# Altium integrated library SV601272A.IntLib: 191 symbols (part 4 of 4)
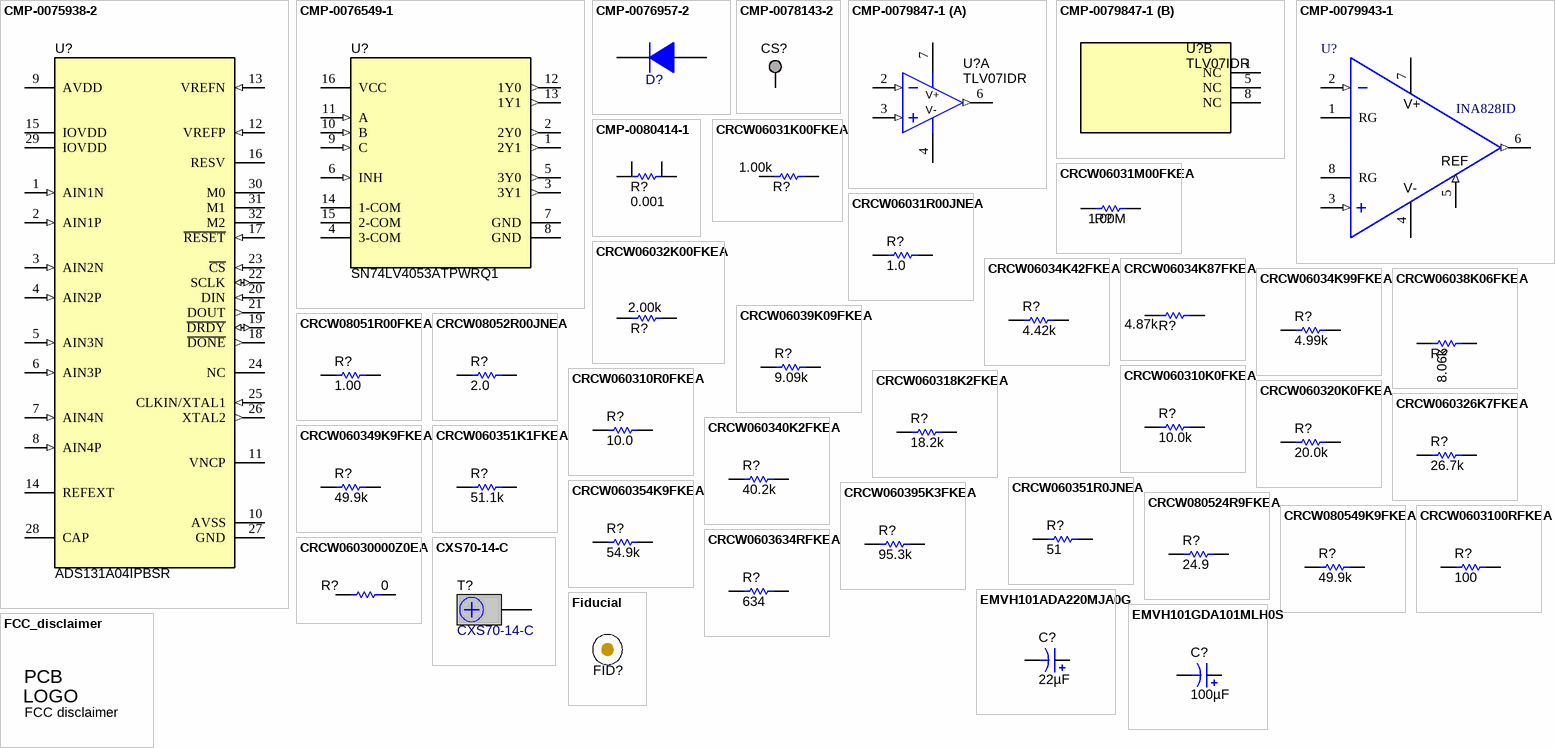
[diagram p8: symbols CMP-0075938-2 to Fiducial]

## EMVH101GDA101MLH0S
designator C?  ValueDisplayed: 100µF  (hidden comment: EMVH101GDA101MLH0S)
CAP, AL, 100 µF, 100 V, +/- 20%, 0.24 ohm, SMD; Manufacturer: Chemi-Con; Polarized: Y; CompType: Capacitor; Value: 100uF; U/M: EA; Cap_F: 0.0001; Tolerance_%: 20; VDC_V: 100; Value2: 100V; ESR_ohm: 0.24; IRMS_A: 0.65; TaMin_C: -40; TaMax_C: 125; Cap_Case: LH0; SymbolVersion: 2008-07-09; PartNumber: EMVH101GDA101MLH0S; PackageReference: LH0; RoHS: Y; Value1: 0.24 ohm; MountType: SMT; Technology: AL; Series: MVH; Publisher: Texas Instruments; LatestRevisionDate: 2014-11-20; ComponentLink1Description: Datasheet link; ComponentLink1URL: http://www.chemi-con.co.jp/e/catalog/pdf/al-e/al-sepa-e/003-chip/al-mvh-e-111201.pdf; Supplier 1: Digi-Key; Supplier Part Number 1: 565-2344-1-ND; Supplier 2: Mouser; Supplier Part Number 2: 661-MVH100V101M; Supplier 3: Farnell; Supplier Part Number 3: 1698522
signal-integrity model Cap
simulation model Cap
footprint CAPSMT_62_LH0
pins: 1 +, 2 -

## FCC_disclaimer
designator Logo?, comment FCC disclaimer  (no BOM)
FCC_disclaimer; SymbolCreator: codlsc; SymbolVersion: 2011-08-22; Published: 2009-03-03; Publisher: Texas Instruments; LatestRevisionDate: 2014-11-20
footprint FCC_disclaimer
footprint FCC_disclaimer_stacked
text: PCB; LOGO

## Fiducial
designator FID?  (value not drawn)
Fiducial mark.  There is nothing to buy or mount.; SymbolCreator: codlsc; SymbolVersion: 2009-11-4; CompType: Fiducial; Publisher: Texas Instruments; LatestRevisionDate: 2014-08-01; LatestRevisionNote: Added Alternate PartNumber and Alternate Manufacturer parameters to appropriate components.; Manufacturer: N/A; MountType: N/A; PackageReference: Fiducial; PartNumber: N/A; ClassName: FiducialMark
footprint Fiducial10-30
footprint Fiducial10-20
footprint Fiducial15-30
footprint Fiducial20-40
footprint Fiducial6.4-20

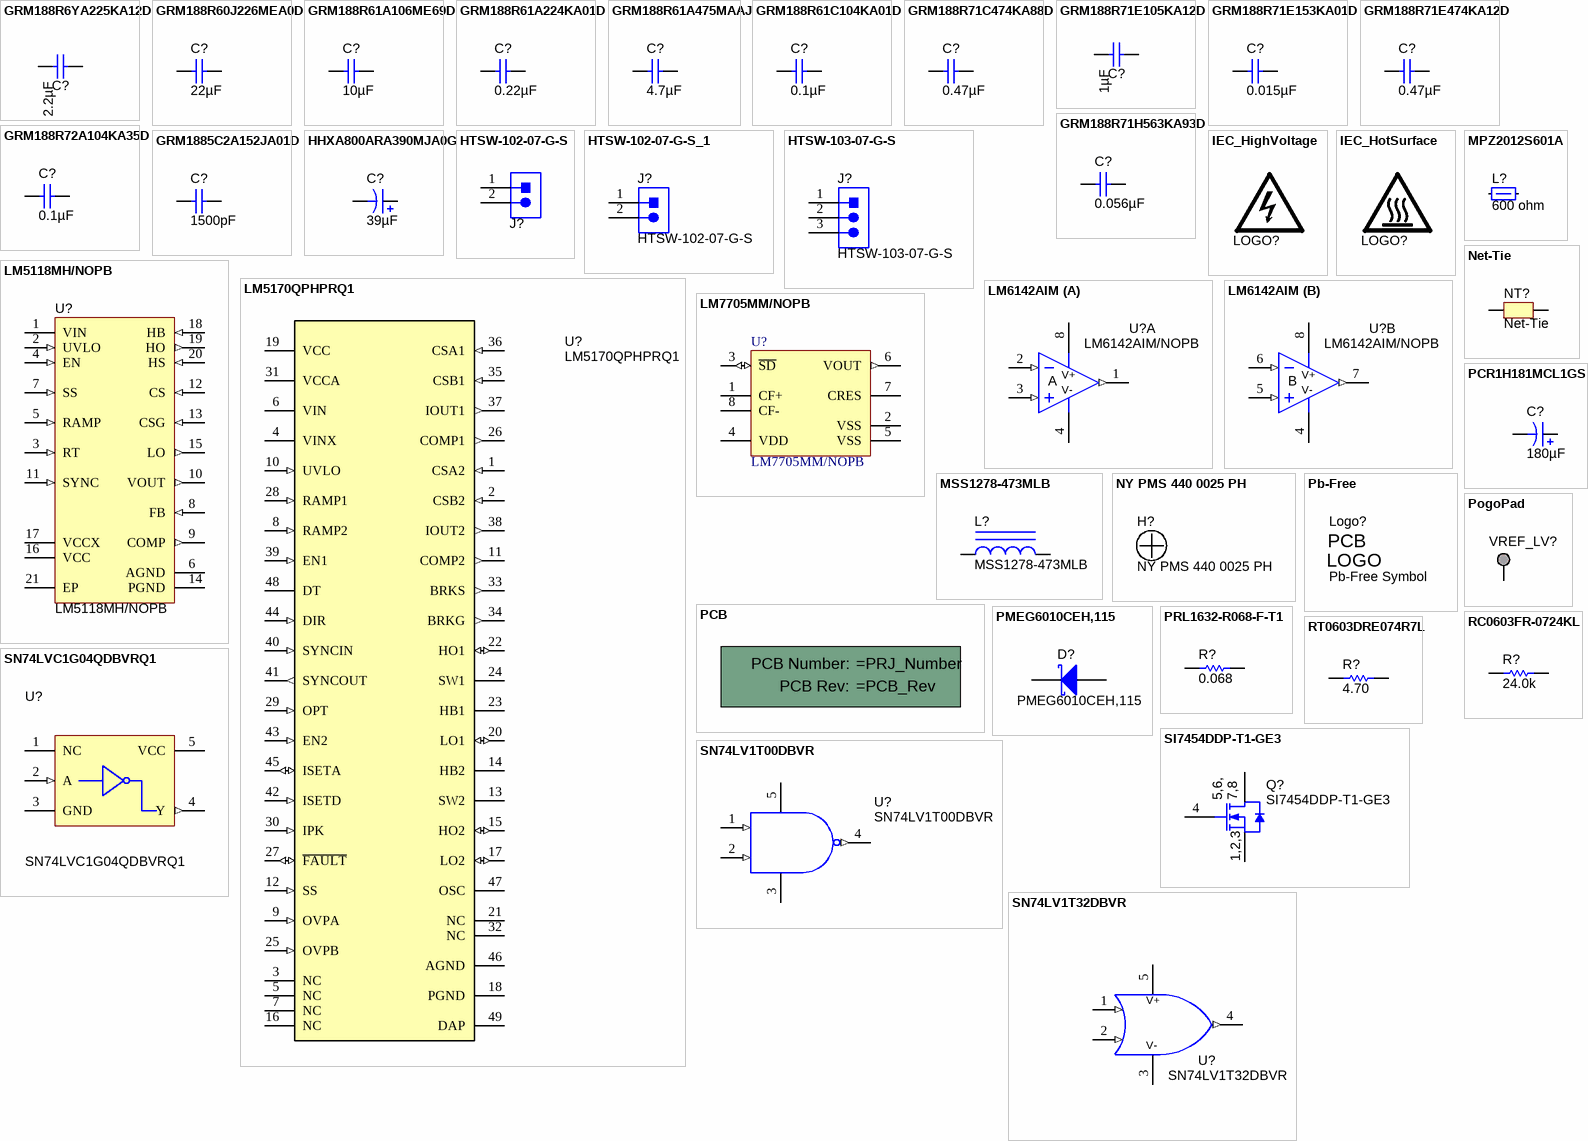
[diagram p4: symbols GRM188R6YA225KA12D to SN74LVC1G04QDBVRQ1]

## GRM188R6YA225KA12D
designator C?  ValueDisplayed: 2.2µF  (hidden comment: GRM188R6YA225KA12D)
CAP, CERM, 2.2 µF, 35 V, +/- 10%, X5R, 0603; Manufacturer: MuRata; Polarized: N; CompType: Capacitor; Value: 2.2uF; U/M: EA; Cap_F: 0.0000022; Tolerance_%: 10; Value1: Unknown; VDC_V: 35; Value2: 35V; TaMin_C: -55; TaMax_C: 85; Cap_Case: 0603; AEC Category: Q200; SymbolVersion: 2008-07-09; PartNumber: GRM188R6YA225KA12D; PackageReference: 0603; RoHS: Y; MountType: SMT; Technology: Ceramic; TempCo: X5R; Published: 2008-06-19; Publisher: Texas Instruments; LatestRevisionDate: 2015-10-23; ComponentLink1Description: Datasheet link; ComponentLink1URL: http://search.murata.co.jp/Ceramy/image/img/A01X/G101/ENG/GRM188R6YA225KA12-01.pdf; Supplier 1: Digi-Key; Supplier Part Number 1: 490-7204-6-ND; AEC Qualified: ?
signal-integrity model Cap
simulation model Cap
footprint 0603
footprint 0603M
footprint 0603L
footprint 0603_HV
footprint 0603S
pins: 1, 2

## GRM188R60J226MEA0D
designator C?  ValueDisplayed: 22µF  (hidden comment: GRM188R60J226MEA0D)
CAP, CERM, 22 µF, 6.3 V, +/- 20%, X5R, 0603; Manufacturer: MuRata; Polarized: N; CompType: Capacitor; Value: 22uF; U/M: EA; Cap_F: 0.000022; Tolerance_%: 20; Value1: Unknown; VDC_V: 6.3; Value2: 6.3V; TaMin_C: -55; TaMax_C: 85; Cap_Case: 0603; SizeArea_mm2: 1.28; SizeAreaWB_mm2: 4.68; SizeX_mm: 1.6; SizeY_mm: 0.8; SizeZ_mm: 1; AEC Category: Q200; SymbolVersion: 2008-07-09; PartNumber: GRM188R60J226MEA0D; PackageReference: 0603; RoHS: Y; MountType: SMT; Technology: Ceramic; TempCo: X5R; Published: 2008-06-19; Publisher: Texas Instruments; LatestRevisionDate: 2016-07-21; ComponentLink1Description: Datasheet link; ComponentLink1URL: http://search.murata.co.jp/Ceramy/image/img/A01X/G101/ENG/GRM188R60J226MEA0-01.pdf; Supplier 1: Digi-Key; Supplier Part Number 1: 490-7611-1-ND; Supplier 2: Mouser; Supplier Part Number 2: 81-GRM188R60J226ME0D; Supplier 3: Farnell; Supplier Part Number 3: 2494232; AEC Qualified: N; AEC Grade: N/A
signal-integrity model Cap
simulation model Cap
footprint 0603
footprint 0603M
footprint 0603L
footprint 0603_HV
footprint 0603S
pins: 1, 2

## GRM188R61A106ME69D
designator C?  ValueDisplayed: 10µF  (hidden comment: GRM188R61A106ME69D)
CAP, CERM, 10 µF, 10 V, +/- 20%, X5R, 0603; Manufacturer: MuRata; Polarized: N; CompType: Capacitor; Value: 10uF; U/M: EA; Cap_F: 0.00001; Tolerance_%: 20; Value1: Unknown; VDC_V: 10; Value2: 10V; TaMin_C: -55; TaMax_C: 85; Cap_Case: 0603; SizeArea_mm2: 1.28; SizeAreaWB_mm2: 4.68; SizeX_mm: 1.6; SizeY_mm: 0.8; SizeZ_mm: 1; AEC Category: Q200; SymbolVersion: 2008-07-09; PartNumber: GRM188R61A106ME69D; PackageReference: 0603; RoHS: Y; MountType: SMT; Technology: Ceramic; TempCo: X5R; Published: 2008-06-19; Publisher: Texas Instruments; LatestRevisionDate: 2016-07-21; ComponentLink1Description: Datasheet link; ComponentLink1URL: http://psearch.murata.com/capacitor/product/GRM188R61A106ME69%23.pdf; AEC Qualified: ?
signal-integrity model Cap
simulation model Cap
footprint 0603
footprint 0603M
footprint 0603L
footprint 0603_HV
footprint 0603S
pins: 1, 2

## GRM188R61A224KA01D
designator C?  ValueDisplayed: 0.22µF  (hidden comment: GRM188R61A224KA01D)
CAP, CERM, 0.22 µF, 10 V, +/- 10%, X5R, 0603; Manufacturer: MuRata; Polarized: N; CompType: Capacitor; Value: 0.22uF; U/M: EA; Cap_F: 0.00000022; Tolerance_%: 10; Value1: Unknown; Value2: 10V; TaMin_C: -55; TaMax_C: 85; Cap_Case: 0603; SizeArea_mm2: 1.28; SizeAreaWB_mm2: 4.68; SizeX_mm: 1.6; SizeY_mm: 0.8; SizeZ_mm: 1; AEC Category: Q200; SymbolVersion: 2008-07-09; PartNumber: GRM188R61A224KA01D; PackageReference: 0603; RoHS: Y; VDC_V: 10; MountType: SMT; Technology: Ceramic; TempCo: X5R; Published: 2008-06-19; Publisher: Texas Instruments; LatestRevisionDate: 2016-07-21; ComponentLink1Description: Datasheet link; ComponentLink1URL: http://search.murata.co.jp/Ceramy/PnsearchViewAction.do?HnOFG=ON&HnNFG=ON&SEL_CNT=50&sLang=en&sKey=GRM188R61A224KA01D&x=9&y=9&search=startwith; Supplier 1: Digi-Key; Supplier Part Number 1: 490-1537-1-ND; Supplier 2: Mouser; Supplier Part Number 2: 81-GRM18R61A224KA01D; AEC Qualified: ?
signal-integrity model Cap
simulation model Cap
footprint 0603
footprint 0603M
footprint 0603L
footprint 0603_HV
footprint 0603S
pins: 1, 2

## GRM188R61A475MAAJ
designator C?  ValueDisplayed: 4.7µF  (hidden comment: GRM188R61A475MAAJ)
CAP, CERM, 4.7 µF, 10 V, +/- 20%, X5R, 0603; Manufacturer: MuRata; Polarized: N; CompType: Capacitor; Value: 4.7uF; U/M: EA; Cap_F: 0.0000047; Tolerance_%: 20; Value1: Unknown; VDC_V: 10; Value2: 10V; TaMin_C: -55; TaMax_C: 85; Cap_Case: 0603; SizeArea_mm2: 1.28; SizeAreaWB_mm2: 4.68; SizeX_mm: 1.6; SizeY_mm: 0.8; SizeZ_mm: 1; AEC Category: Q200; SymbolVersion: 2008-07-09; PartNumber: GRM188R61A475MAAJ; PackageReference: 0603; RoHS: Y; MountType: SMT; Technology: Ceramic; TempCo: X5R; Published: 2008-06-19; Publisher: Texas Instruments; LatestRevisionDate: 2016-07-21; ComponentLink1Description: Datasheet link; ComponentLink1URL: http://psearch.en.murata.com/capacitor/product/GRM188R61A475MAAJ%23.pdf; AEC Qualified: N; AEC Grade: N/A
signal-integrity model Cap
simulation model Cap
footprint 0603
footprint 0603M
footprint 0603L
footprint 0603_HV
footprint 0603S
pins: 1, 2

## GRM188R61C104KA01D
designator C?  ValueDisplayed: 0.1µF  (hidden comment: GRM188R61C104KA01D)
CAP, CERM, 0.1 µF, 16 V, +/- 10%, X5R, 0603; Manufacturer: MuRata; Polarized: N; CompType: Capacitor; Value: 0.1uF; U/M: EA; Cap_F: 0.0000001; Tolerance_%: 10; Value1: Unknown; VDC_V: 16; Value2: 16V; TaMin_C: -55; TaMax_C: 85; Cap_Case: 0603; SizeArea_mm2: 1.28; SizeAreaWB_mm2: 4.68; SizeX_mm: 1.6; SizeY_mm: 0.8; SizeZ_mm: 1; AEC Category: Q200; SymbolVersion: 2008-07-09; PartNumber: GRM188R61C104KA01D; PackageReference: 0603; RoHS: Y; MountType: SMT; Technology: Ceramic; TempCo: X5R; Published: 2008-06-19; Publisher: Texas Instruments; LatestRevisionDate: 2016-07-21; ComponentLink1Description: Datasheet link; ComponentLink1URL: http://search.murata.co.jp/Ceramy/PnsearchViewAction.do?HnOFG=ON&HnNFG=ON&SEL_CNT=50&sLang=en&sKey=GRM188R61C104KA01D&x=9&y=9&search=startwith; Supplier 1: Digi-Key; Supplier Part Number 1: GRM188R61C104KA01D-ND; Supplier 2: Mouser; Supplier Part Number 2: 81-GRM188R61C104KA1D; AEC Qualified: ?
signal-integrity model Cap
simulation model Cap
footprint 0603
footprint 0603M
footprint 0603L
footprint 0603_HV
footprint 0603S
pins: 1, 2

## GRM188R71C474KA88D
designator C?  ValueDisplayed: 0.47µF  (hidden comment: GRM188R71C474KA88D)
CAP, CERM, 0.47 µF, 16 V, +/- 10%, X7R, 0603; Manufacturer: MuRata; Polarized: N; CompType: Capacitor; Value: 0.47uF; U/M: EA; Cap_F: 0.00000047; Tolerance_%: 10; Value1: Unknown; VDC_V: 16; Value2: 16V; TaMin_C: -55; TaMax_C: 125; Cap_Case: 0603; AEC Category: Q200; SymbolVersion: 2008-07-09; PartNumber: GRM188R71C474KA88D; PackageReference: 0603; RoHS: Y; MountType: SMT; Technology: Ceramic; TempCo: X7R; Published: 2008-06-19; Publisher: Texas Instruments; LatestRevisionDate: 2015-08-30; ComponentLink1Description: Datasheet link; ComponentLink1URL: http://search.murata.co.jp/Ceramy/PnsearchViewAction.do?HnOFG=ON&HnNFG=ON&SEL_CNT=50&sLang=en&sKey=GRM188R71C474KA88D&x=9&y=9&search=startwith; Supplier 1: Digi-Key; Supplier Part Number 1: 490-3295-1-ND; Supplier 2: Mouser; Supplier Part Number 2: 81-GRM188R71C474KA88; Supplier 3: Farnell; Supplier Part Number 3: 1828893; AEC Qualified: ?
signal-integrity model Cap
simulation model Cap
footprint 0603
footprint 0603M
footprint 0603L
footprint 0603_HV
footprint 0603S
pins: 1, 2

## GRM188R71E105KA12D
designator C?  ValueDisplayed: 1µF  (hidden comment: GRM188R71E105KA12D)
CAP, CERM, 1 µF, 25 V, +/- 10%, X7R, 0603; Manufacturer: MuRata; Polarized: N; CompType: Capacitor; Value: 1uF; U/M: EA; Cap_F: 0.000001; Tolerance_%: 10; Value1: Unknown; VDC_V: 25; Value2: 25V; TaMin_C: -55; TaMax_C: 125; Cap_Case: 0603; AEC Category: Q200; SymbolVersion: 2008-07-09; PartNumber: GRM188R71E105KA12D; PackageReference: 0603; RoHS: Y; MountType: SMT; Technology: Ceramic; TempCo: X7R; Published: 2008-06-19; Publisher: Texas Instruments; LatestRevisionDate: 2015-10-23; ComponentLink1Description: Datasheet link; ComponentLink1URL: http://search.murata.co.jp/Ceramy/PnsearchViewAction.do?HnOFG=ON&HnNFG=ON&SEL_CNT=50&sLang=en&sKey=GRM188R71E105KA12D&x=9&y=9&search=startwith; Supplier 1: Digi-Key; Supplier Part Number 1: 490-5307-1-ND; Supplier 2: Mouser; Supplier Part Number 2: 81-GRM188R71E105KA2D; Supplier 3: Farnell; Supplier Part Number 3: 1735540; AEC Qualified: ?
signal-integrity model Cap
simulation model Cap
footprint 0603
footprint 0603M
footprint 0603L
footprint 0603_HV
footprint 0603S
pins: 1, 2

## GRM188R71E153KA01D
designator C?  ValueDisplayed: 0.015µF  (hidden comment: GRM188R71E153KA01D)
CAP, CERM, 0.015 µF, 25 V, +/- 10%, X7R, 0603; Manufacturer: MuRata; Polarized: N; CompType: Capacitor; Value: 0.015uF; U/M: EA; Cap_F: 0.000000015; Tolerance_%: 10; Value1: Unknown; VDC_V: 25; Value2: 25V; TaMin_C: -55; TaMax_C: 125; Cap_Case: 0603; SymbolVersion: 2008-07-09; PartNumber: GRM188R71E153KA01D; PackageReference: 0603; RoHS: Y; MountType: SMT; Technology: Ceramic; TempCo: X7R; Published: 2008-06-19; Publisher: Texas Instruments; LatestRevisionDate: 2015-02-19; ComponentLink1Description: Datasheet link; ComponentLink1URL: http://search.murata.co.jp/Ceramy/PnsearchViewAction.do?HnOFG=ON&HnNFG=ON&SEL_CNT=50&sLang=en&sKey=GRM188R71E153KA01D&x=9&y=9&search=startwith; Supplier 1: Mouser; Supplier Part Number 1: 81-GRM39X153K25D
signal-integrity model Cap
simulation model Cap
footprint 0603
footprint 0603M
footprint 0603L
footprint 0603_HV
footprint 0603S
pins: 1, 2

## GRM188R71E474KA12D
designator C?  ValueDisplayed: 0.47µF  (hidden comment: GRM188R71E474KA12D)
CAP, CERM, 0.47 µF, 25 V, +/- 10%, X7R, 0603; Manufacturer: MuRata; Polarized: N; CompType: Capacitor; Value: 0.47uF; U/M: EA; Cap_F: 0.00000047; Tolerance_%: 10; Value1: Unknown; VDC_V: 25; Value2: 25V; TaMin_C: -55; TaMax_C: 125; Cap_Case: 0603; SizeArea_mm2: 1.28; SizeAreaWB_mm2: 4.68; SizeX_mm: 1.6; SizeY_mm: 0.8; SizeZ_mm: 1; AEC Category: Q200; SymbolVersion: 2008-07-09; PartNumber: GRM188R71E474KA12D; PackageReference: 0603; RoHS: Y; MountType: SMT; Technology: Ceramic; TempCo: X7R; Published: 2008-06-19; Publisher: Texas Instruments; LatestRevisionDate: 2016-07-21; ComponentLink1Description: Datasheet link; ComponentLink1URL: http://search.murata.co.jp/Ceramy/PnsearchViewAction.do?HnOFG=ON&HnNFG=ON&SEL_CNT=50&sLang=en&sKey=GRM188R71E474KA12D&x=9&y=9&search=startwith; Supplier 1: Digi-Key; Supplier Part Number 1: 490-3291-1-ND; Supplier 2: Mouser; Supplier Part Number 2: 81-GRM188R71E474KA12; Supplier 3: Farnell; Supplier Part Number 3: 1828901; AEC Qualified: ?
signal-integrity model Cap
simulation model Cap
footprint 0603
footprint 0603M
footprint 0603L
footprint 0603_HV
footprint 0603S
pins: 1, 2

## GRM188R71H563KA93D
designator C?  ValueDisplayed: 0.056µF  (hidden comment: GRM188R71H563KA93D)
CAP, CERM, 0.056 µF, 50 V, +/- 10%, X7R, 0603; Manufacturer: MuRata; Polarized: N; CompType: Capacitor; Value: 0.056uF; U/M: EA; Cap_F: 0.000000056; Tolerance_%: 10; Value1: Unknown; VDC_V: 50; Value2: 50V; TaMin_C: -55; TaMax_C: 125; Cap_Case: 0603; SymbolVersion: 2008-07-09; PartNumber: GRM188R71H563KA93D; PackageReference: 0603; RoHS: Y; MountType: SMT; Technology: Ceramic; TempCo: X7R; Published: 2008-06-19; Publisher: Texas Instruments; LatestRevisionDate: 2014-11-05; ComponentLink1Description: Datasheet link; ComponentLink1URL: http://search.murata.co.jp/Ceramy/PnsearchViewAction.do?HnOFG=ON&HnNFG=ON&SEL_CNT=50&sLang=en&sKey=GRM188R71H563KA93D&x=9&y=9&search=startwith; Supplier 1: Mouser; Supplier Part Number 1: 81-GRM188R71H563KA93
signal-integrity model Cap
simulation model Cap
footprint 0603
footprint 0603M
footprint 0603L
footprint 0603_HV
footprint 0603S
pins: 1, 2

## GRM188R72A104KA35D
designator C?  ValueDisplayed: 0.1µF  (hidden comment: GRM188R72A104KA35D)
CAP, CERM, 0.1 µF, 100 V, +/- 10%, X7R, 0603; Manufacturer: MuRata; Polarized: N; CompType: Capacitor; Value: 0.1uF; U/M: EA; Cap_F: 0.0000001; Tolerance_%: 10; Value1: Unknown; VDC_V: 100; Value2: 100V; TaMin_C: -55; TaMax_C: 125; Cap_Case: 0603; AEC Category: Q200; SymbolVersion: 2008-07-09; PartNumber: GRM188R72A104KA35D; PackageReference: 0603; RoHS: Y; MountType: SMT; Technology: Ceramic; TempCo: X7R; Published: 2008-06-19; Publisher: Texas Instruments; LatestRevisionDate: 2015-12-07; ComponentLink1Description: Datasheet link; ComponentLink1URL: http://search.murata.co.jp/Ceramy/PnsearchViewAction.do?HnOFG=ON&HnNFG=ON&SEL_CNT=50&sLang=en&sKey=GRM188R72A104KA35D&x=9&y=9&search=startwith; Supplier 1: Digi-Key; Supplier Part Number 1: 490-3285-1-ND; Supplier 2: Mouser; Supplier Part Number 2: 81-GRM188R72A104KA35; Supplier 3: Farnell; Supplier Part Number 3: 1828921; AEC Qualified: ?
signal-integrity model Cap
simulation model Cap
footprint 0603
footprint 0603M
footprint 0603L
footprint 0603_HV
footprint 0603S
pins: 1, 2

## GRM1885C2A152JA01D
designator C?  ValueDisplayed: 1500pF  (hidden comment: GRM1885C2A152JA01D)
CAP, CERM, 1500 pF, 100 V, +/- 5%, C0G/NP0, 0603; Manufacturer: MuRata; Polarized: N; CompType: Capacitor; Value: 1500pF; U/M: EA; Cap_F: 0.0000000015; Tolerance_%: 5; Value1: Unknown; VDC_V: 100; Value2: 100V; TaMin_C: -55; TaMax_C: 125; Cap_Case: 0603; SymbolVersion: 2008-07-09; PartNumber: GRM1885C2A152JA01D; PackageReference: 0603; RoHS: Y; MountType: SMT; Technology: Ceramic; TempCo: C0G/NP0; Published: 2008-06-19; Publisher: Texas Instruments; LatestRevisionDate: 2014-11-05; ComponentLink1Description: Datasheet link; ComponentLink1URL: http://search.murata.co.jp/Ceramy/PnsearchViewAction.do?HnOFG=ON&HnNFG=ON&SEL_CNT=50&sLang=en&sKey=GRM1885C2A152JA01D&x=9&y=9&search=startwith; Supplier 1: Digi-Key; Supplier Part Number 1: GRM1885C2A152JA01D-ND; Supplier 2: Mouser; Supplier Part Number 2: 81-GRM1885C2A152JA1D
signal-integrity model Cap
simulation model Cap
footprint 0603
footprint 0603M
footprint 0603L
footprint 0603_HV
footprint 0603S
pins: 1, 2

## HHXA800ARA390MJA0G
designator C?  ValueDisplayed: 39µF  (hidden comment: HHXA800ARA390MJA0G)
CAP, Aluminum Polymer, 39 µF, 80 V, +/- 20%, 0.035 ohm, AEC-Q200 Grade 1, D10xL10mm SMD; Manufacturer: Chemi-Con; CompType: Capacitor; U/M: EA; ESR_ohm: 0.035; VDC_V: 80; Tolerance_%: 20; Value: 39uF; Polarized: Y; Cap_F: 0.000039; Value2: 80V; IRMS_A: 1.2; TaMin_C: -55; TaMax_C: 125; Cap_Case: 10X10mm; AEC Category: Q200; AEC Grade: 1; SymbolVersion: 2008-07-09; MountType: SMT; RoHS: Y; PartNumber: HHXA800ARA390MJA0G; PackageReference: D10xL10mm; ComponentLink1Description: Datasheet link; ComponentLink1URL: http://www.chemi-con.co.jp/cgi-bin/CAT_DB/SEARCH/cat_db_al.cgi?e=e&j=p&pdfname=hxa; Supplier 1: Digi-Key; Supplier 2: Mouser; Supplier 3: Farnell; Supplier Part Number 1: 565-4174-1-ND; Supplier Part Number 2: 661-HHXA800A390MJA0G; Supplier Part Number 3: 2504548; Value1: 0.035 ohm; Technology: Aluminum Polymer; Series: HXA; Publisher: Texas Instruments; LatestRevisionDate: 2016-03-30; AEC Qualified: Y
signal-integrity model Cap
simulation model Cap
footprint HXA_JA0
pins: 1 +, 2 -

## HTSW-102-07-G-S
designator J?  (value not drawn)
Header, 100mil, 2x1, Gold, TH; Manufacturer: Samtec; SymbolCreator: a0412235; U/M: EA; SymbolVersion: 2013-10-31; PartNumber: HTSW-102-07-G-S; PackageReference: Header, 100mil, 2x1, TH; ClassName: Header; CompType: Header; RoHS: Y; MountType: TH; ComponentLink1Description: Datasheet Link; ComponentLink1URL: http://www.samtec.com/ftppub/pdf/TSW_TH.PDF; Publisher: Texas Instruments; LatestRevisionDate: 2015-09-29; Supplier 1: Digi-Key; Supplier Part Number 1: SAM8736-ND
footprint Samtec_HTSW-102-07-G-S
pins: 1, 2
1 alternate drawing of the same symbol

## HTSW-102-07-G-S_1
designator J?, comment HTSW-102-07-G-S
Header, 100mil, 2x1, Gold, TH; Manufacturer: Samtec; SymbolCreator: a0412235; U/M: EA; SymbolVersion: 2013-10-31; PartNumber: HTSW-102-07-G-S; ClassName: Header; PackageReference: Header, 100mil, 2x1, TH; CompType: Header; RoHS: Y; MountType: TH; ComponentLink1Description: Datasheet Link; ComponentLink1URL: http://www.samtec.com/ftppub/pdf/TSW_TH.PDF; Publisher: Texas Instruments; LatestRevisionDate: 2014-10-01; Supplier 1: Digi-Key; Supplier Part Number 1: SAM8736-ND
footprint Samtec_HTSW-102-07-G-S
pins: 1, 2
1 alternate drawing of the same symbol

## HTSW-103-07-G-S
designator J?
Header, 100mil, 3x1, Gold, TH; Manufacturer: Samtec; SymbolCreator: a0799628; U/M: EA; SymbolVersion: 2013-03-28; PartNumber: HTSW-103-07-G-S; ClassName: Header; PackageReference: Header, 100mil, 3x1, TH; CompType: Header; RoHS: Y; MountType: TH; ComponentLink1Description: Datasheet Link; ComponentLink1URL: http://www.samtec.com/ftppub/pdf/TSW_TH.PDF; Publisher: Texas Instruments; LatestRevisionDate: 2014-10-01; Supplier 1: Digi-Key; Supplier Part Number 1: HTSW-103-07-G-S-ND
footprint Samtec_HTSW-103-07-G-S
pins: 1, 2, 3
2 alternate drawings of the same symbol

## IEC_HighVoltage
designator LOGO?, comment DANGER HIGH VOLTAGE  (value not drawn)  (no BOM)
IEC 61010-1 High Voltage Warning; SymbolCreator: a0412235; SymbolVersion: 2011-08-22; Published: 2009-03-03; Publisher: Texas Instruments; LatestRevisionDate: 2016-03-21
footprint IEC_HighVoltage_Large
footprint IEC_HighVoltage_Medium
footprint IEC_HighVoltage_Small

## IEC_HotSurface
designator LOGO?, comment CAUTION HOT SURFACE  (value not drawn)  (no BOM)
IEC 61010-1 Hot Surface Warning; SymbolCreator: a0412235; SymbolVersion: 2011-08-22; Published: 2009-03-03; Publisher: Texas Instruments; LatestRevisionDate: 2016-03-21
footprint IEC_HotSurface_Large
footprint IEC_HotSurface_Medium
footprint IEC_HotSurface_Small

## LM5118MH/NOPB
designator U?
Wide Voltage Range Buck-Boost Controller, 20-pin TSSOP-EP, Pb-Free; Manufacturer: Texas Instruments; PackageTopMarking: NSUZXYTT*LM5118*MH; PowerWise: Y; CompType: Switcher; Published: 1-Mar-2010; DatasheetVersion: Jul-2009; PackageVersion: revC, Jul-2006; PackageReference: MXA20A; Publisher: Altium Limited; PackageDescription: Molded TSSOP, Jedec, 6.5 x 4.4 x 0.9mm Body, 20 Lead, 0.65mm Pitch, Exposed Pad; Supplier 1: Digi-Key; Supplier Part Number 1: LM5118MH-ND; Supplier 2: Farnell; Supplier Part Number 2: 1606457; PartNumber: LM5118MH/NOPB; RoHS: Y; PinCount: 20; Code_JEDEC: MO-153-ACT; ComponentLink1Description: LM5118 Datasheet; ComponentLink1URL: http://www.national.com/ds/LM/LM5118.pdf; ComponentLink2Description: LM5118 Web Page; ComponentLink2URL: http://www.national.com/pf/LM/LM5118.html; ComponentLink3Description: MXA20A Package Page; ComponentLink3URL: http://www.national.com/packaging/folders/mxa20a.html
footprint MXA20A_N (TSOP, 20-Leads, Body 6.5x4.4mm, Pitch 0.65mm, Exposed Pad, IPC Medium Density)
footprint MXA20A_L (TSOP, 20-Leads, Body 6.5x4.4mm, Pitch 0.65mm, Exposed Pad, IPC High Density)
footprint MXA20A_M (TSOP, 20-Leads, Body 6.5x4.4mm, Pitch 0.65mm, Exposed Pad, IPC Low Density)
pins: 1 VIN (power), 2 UVLO (in), 3 RT (in), 4 EN (in), 5 RAMP (in), 6 AGND (power), 7 SS (in), 8 FB (in), 9 COMP (out), 10 VOUT (out), 11 SYNC (in), 12 CS (in), 13 CSG (in), 14 PGND (power), 15 LO (out), 16 VCC (power), 17 VCCX (power), 18 HB (in), 19 HO (out), 20 HS (in), 21 EP (power)

## LM5170QPHPRQ1
designator U?
Dual Channel 48V-12V Bidirectional Current Controller, PHP0048D; Manufacturer: Texas Instruments; Alternate PartNumber: LM5170QPHPTQ1; SymbolCreator: Altium; CompType: IC; U/M: EA; SymbolVersion: 2015-01-22; MountType: SMT; PartNumber: LM5170QPHPRQ1; PackageReference: PHP0048D; ComponentLink1Description: Datasheet Link; ComponentLink1URL: https://sps06.itg.ti.com/sites/KMS/crossdivteams/altium/docs/ComponentDatasheets/LM5170 DS Preliminary 08-17-2015 to Galileo.pdf; Alternate Manufacturer: Texas Instruments; Publisher: Texas Instruments; LatestRevisionDate: 2016-01-25
footprint PHP0048D_N
footprint PHP0048D_M
footprint PHP0048D_L
pins: 1 CSA2 (in), 2 CSB2 (in), 3 NC, 4 VINX (power), 5 NC, 6 VIN (power), 7 NC, 8 RAMP2 (in), 9 OVPA (in), 10 UVLO (in), 11 COMP2 (out), 12 SS (in), 13 SW2 (power), 14 HB2 (power), 15 HO2 (io), 16 NC, 17 LO2 (io), 18 PGND (power), 19 VCC (power), 20 LO1 (io), 21 NC, 22 HO1 (io), 23 HB1 (power), 24 SW1 (power), 25 OVPB (in), 26 COMP1 (out), 27 ~{FAULT} (io), 28 RAMP1 (in), 29 OPT (in), 30 IPK (in), 31 VCCA (power), 32 NC, 33 BRKS (out), 34 BRKG (out), 35 CSB1 (in), 36 CSA1 (in), 37 IOUT1 (out), 38 IOUT2 (out), 39 EN1 (in), 40 SYNCIN (in), 41 SYNCOUT (out), 42 ISETD (in), 43 EN2 (in), 44 DIR (in), 45 ISETA (io), 46 AGND (power), 47 OSC, 48 DT, 49 DAP (power)
1 alternate drawing of the same symbol

## LM6142AIM
designator U?, comment LM6142AIM/NOPB
17MHz Rail-to-Rail Input and Output Op Amp, D0008A; Manufacturer: Texas Instruments; CompType: OpAmp IC; SymbolVersion: 2013-12-03; PartNumber: LM6142AIM/NOPB; PackageReference: D0008A; MountType: SMT; Publisher: Texas Instruments; LatestRevisionDate: 2015-02-03; Alternate Manufacturer: Texas Instruments; ComponentLink1Description: LM6142 Datasheet; ComponentLink1URL: http://www.ti.com/lit/gpn/LM6142; ComponentLink2Description: LM6142 Web Page; ComponentLink2URL: http://www.ti.com/product/LM6142; ComponentLink3Description: SOIC Package Web Page; ComponentLink3URL: http://www.ti.com/sc/docs/psheets/type/soic.html
footprint D0008A_N
footprint D0008A_M
footprint D0008A_L
simulation model LM6142A/NS (SUBCKT)
pins on every part: 4 V- (power), 8 V+ (power)
part A pins: 1 OUT (out), 2 IN- (in), 3 IN+ (in)
part B pins: 5 IN+ (in), 6 IN- (in), 7 OUT (out)
1 alternate drawing of the same symbol
part A text: A
part B text: B

## LM7705MM/NOPB
designator U?
Low Noise Negative Bias Generator, 8-pin Mini SOIC, Pb-Free; Manufacturer: Texas Instruments; PackageTopMarking: ZXTT*F26A; PowerWise: N; CompType: OtherParts; Published: 1-Mar-2010; DatasheetVersion: Jun-2009; PackageVersion: revF, Apr-2008; PackageReference: MUA08A; Publisher: Altium Limited; PackageDescription: MINI SOIC, .118 x .118 x .034in, 8 Lead, .0256in Pitch; Supplier 1: Digi-Key; Supplier Part Number 1: LM7705MM-ND; PartNumber: LM7705MM/NOPB; RoHS: Y; PinCount: 8; Code_JEDEC: MO-187-AA; ComponentLink1Description: LM7705 Datasheet; ComponentLink1URL: http://www.national.com/ds/LM/LM7705.pdf; ComponentLink2Description: LM7705 Web Page; ComponentLink2URL: http://www.national.com/pf/LM/LM7705.html; ComponentLink3Description: MUA08A Package Page; ComponentLink3URL: http://www.national.com/packaging/folders/mua08a.html
footprint MUA08A_N (TSOP, 8-Leads, Body 3x3mm, Pitch 0.65mm, IPC Medium Density)
footprint MUA08A_L (TSOP, 8-Leads, Body 3x3mm, Pitch 0.65mm, IPC High Density)
footprint MUA08A_M (TSOP, 8-Leads, Body 3x3mm, Pitch 0.65mm, IPC Low Density)
pins: 1 CF+, 2 VSS (power), 3 ~{SD} (io), 4 VDD (power), 5 VSS (power), 6 VOUT (out), 7 CRES, 8 CF-

## MPZ2012S601A
designator L?  value 600 ohm  (hidden comment: MPZ2012S601A)
Ferrite Bead, 600 ohm @ 100MHz, 2A, 0805; Manufacturer: TDK; Imax_A: 2; DCR_ohm: 0.1; Value1: 0.1 ohm; ZTyp@100MHz_Ohm: 600; CompType: Ferrite Bead; SymbolVersion: 2009-06-02; PartNumber: MPZ2012S601A; Value2: 2A; MountType: SMT; PackageReference: 0805; Published: 2014-04-30; Publisher: Texas Instruments; LatestRevisionDate: 2014-07-01; ComponentLink1Description: Datasheet link; ComponentLink1URL: http://www.tdk.co.jp/tefe02/e9413_mpz.pdf; RoHS: Y; Supplier 1: Digi-Key; Supplier Part Number 1: 445-2206-1-ND; Supplier 2: Mouser; Supplier Part Number 2: 810-MPZ2012S601A; Supplier 3: Farnell; Supplier Part Number 3: 1669753
footprint 0805_HV
footprint 0805
footprint 0805M
footprint 0805L
pins: 1, 2

## MSS1278-473MLB
designator L?
Inductor, Shielded Drum Core, Ferrite, 47 µH, 2.9 A, 0.07 ohm, SMD; Manufacturer: Coilcraft; Value: 47uH; Ind_H: 47.0E-6; ValueDisplayed: 47µH; Imax_A: 2.9; Irms: 2.9A @ 40C rise; Isat: 5.32A @ 30% inductance drop; DCR_ohm: 0.07; Value2: 2.9A; SymbolVersion: 2008-07-23; CompType: Inductor; PartNumber: MSS1278-473MLB; Value1: 0.07 ohm; Technology: Shielded Drum Core; MountType: SMT; Material: Ferrite; PackageReference: MSS1278; Published: 2008-06-26; Publisher: Texas Instruments; LatestRevisionDate: 2014-10-31; ComponentLink1Description: Datasheet link; ComponentLink1URL: http://www.coilcraft.com/pdfs/mss1278.pdf; RoHS: Y
signal-integrity model Inductor
simulation model Inductor
footprint mss1278
pins: 1, 2

## Net-Tie
designator NT?  (net tie, no BOM)
Single point connection between nets.; SymbolCreator: codlsc; SymbolVersion: 2009-07-01; MountType: SMT; PackageReference: N/A; Publisher: Texas Instruments; LatestRevisionDate: 2014-10-27; LatestRevisionNote: Added Alternate PartNumber and Alternate Manufacturer parameters to appropriate components.
footprint Net-Tie_10mil (10mil net tie, no solder mask opening, no solder paste)
footprint NetTie_1206 (1206 pads tied by 10mil copper trace which can be cut.  Part can be placed on pads.)
footprint Net-Tie_0805_HV
footprint NetTie_1206_NoOverlay (1206 pads tied by 10mil copper trace which can be cut.  Part can be placed on pads.)
footprint Net-Tie_0805_HV_NoOverlay (0805_HV pads tied by 10mil copper trace which can be cut.  An 0805 part can be placed on pads.)
footprint Net-Tie_10milWide_30milLong
footprint Net-Tie_20milWide_60milLong
footprint NetTie_0603
footprint NetTie_0402
footprint Net-Tie_50milWide_30milLong
pins: 1, 2

## NY PMS 440 0025 PH
designator H?
Machine Screw, Round, #4-40 x 1/4, Nylon, Philips panhead; Manufacturer: B&F Fastener Supply; CompType: Hardware; SymbolCreator: codlsc; U/M: EA; SymbolVersion: 2009-10-28; MountType: N/A; RoHS: Y; PartNumber: NY PMS 440 0025 PH; PackageReference: Screw; DigiKeyPartNumber: H542-ND; ComponentLink1Description: Datasheet Link; ComponentLink1URL: http://www.fasnetdirect.com/refguide/Machinepancombo.pdf; ClassName: Mounting Holes; Alternate Manufacturer: -; Alternate PartNumber: -; LatestRevisionDate: 2012-06-27; LatestRevisionNote: Initial Version; Publisher: Texas Instruments; Supplier 1: Digi-Key; Supplier Part Number 1: H542-ND
footprint NY PMS 440 0025 PH

## Pb-Free
designator Logo?, comment Pb-Free Symbol  (no BOM)
SymbolCreator: a0412235; SymbolVersion: 2011-08-22; Published: 2009-03-03; Publisher: Texas Instruments; LatestRevisionDate: 2016-03-21
footprint Pb-Free_Overlay_Medium
footprint Pb-Free_Overlay_Small
text: PCB; LOGO

## PCB
designator !PCB?, comment Printed Circuit Board  (value not drawn)  (mechanical)
Manufacturer: Any; SymbolCreator: a0412235; CompType: PCB; SymbolVersion: 2012-05-30; PartNumber: =PRJ_Number; RoHS: O; MountType: N/A; Publisher: Texas Instruments; LatestRevisionDate: 2012-06-27; LatestRevisionNote: Initial Version; Alternate Manufacturer: -; Alternate PartNumber: -
1 alternate drawing of the same symbol
text: PCB Number:; PCB Rev:

## PCR1H181MCL1GS
designator C?  ValueDisplayed: 180µF  (hidden comment: PCR1H181MCL1GS)
CAP, AL, 180 µF, 50 V, +/- 20%, 0.019 ohm, SMD; Manufacturer: Nichicon; Polarized: Y; CompType: Capacitor; Value: 180uF; U/M: EA; Cap_F: 0.00018; Tolerance_%: 20; VDC_V: 50; Value2: 50V; ESR_ohm: 0.019; IRMS_A: 3.5; TaMin_C: -55; TaMax_C: 125; Cap_Case: 10x12.7mm; SymbolVersion: 2008-07-09; PartNumber: PCR1H181MCL1GS; PackageReference: SMD, 2-Leads, Dia 10.5mm, Pin Spacing 8mm; RoHS: Y; Value1: 0.019 ohm; MountType: SMT; Technology: AL; Series: CR1; Publisher: Texas Instruments; LatestRevisionDate: 2014-11-20; ComponentLink1Description: Datasheet link; ComponentLink1URL: http://www.nichicon-us.com/english/products/pdfs/e-cr.pdf; Supplier 1: Digi-Key; Supplier Part Number 1: 493-13774-1-ND; Supplier 2: Mouser; Supplier Part Number 2: 647-PCR1H181MCL1GS
signal-integrity model Cap
simulation model Cap
footprint CR_1000x1270
pins: 1 +, 2 -

## PMEG6010CEH,115
designator D?
Diode, Schottky, 60 V, 1 A, SOD-123F; Manufacturer: NXP Semiconductor; U/M: EA; Vf_V: 0.57; Value: 60V; Value1: 1A; Value2: 0.57V; Io_A: 1; Vr_V: 60; TJmax_C: 150; CompType: Diode; SymbolVersion: 2008-12-08; PartNumber: PMEG6010CEH,115; PackageReference: SOD-123F; MountType: SMT; Type: Schottky; RoHS: Y; Published: 2008-06-26; Publisher: Texas Instruments; LatestRevisionDate: 2014-09-30; ComponentLink1Description: Datasheet link; ComponentLink1URL: http://www.nxp.com/documents/data_sheet/PMEG6010CEH_PMEG6010CEJ.pdf; Supplier 1: Digi-Key; Supplier Part Number 1: 568-4104-1-ND; Supplier 2: Farnell; Supplier Part Number 2: 1510694
signal-integrity model Diode
footprint SOD-123F
pins: 1 K, 2 A

## PogoPad
designator VREF_LV?, comment Pogo Pad  (value not drawn)  (no BOM)
Pad for Pogo Pin Connector; SymbolCreator: codlsc; SymbolVersion: 2010-09-27; PackageReference: N/A; CompType: Pogo Pad; Publisher: Texas Instruments; LatestRevisionDate: 2016-12-05; LatestRevisionNote: Added Alternate PartNumber and Alternate Manufacturer parameters to appropriate components.
footprint PogoPad
pins: 1

## PRL1632-R068-F-T1
designator R?  ValueDisplayed: 0.068  (hidden comment: PRL1632-R068-F-T1)
RES, 0.068, 1%, 1 W, 0612; Manufacturer: Susumu Co Ltd; CompType: Resistor; Value: 0.068; Value_Code: R068; Tolerance_%: 1; Value2: 1W; TempCo: 50 ppm/C; U/M: EA; SymbolVersion: 2009-05-29; PartNumber: PRL1632-R068-F-T1; PackageReference: 0612; RoHS: Y; Res_ohm: 0.068; Value1: 1%; Power_W: 1; MountType: SMT; Technology: Thin Film; Published: 2008-06-26; Publisher: Texas Instruments; LatestRevisionDate: 2014-11-30; ComponentLink1Description: Datasheet link; ComponentLink1URL: http://www.susumu-usa.com/common/pdf/PRL_RL_Data_sheet.pdf; Supplier 1: Digi-Key; Supplier Part Number 1: PRL1632.068FCT-ND; Supplier 2: Mouser; Supplier Part Number 2: 754-PRL1632-R068-FT1
signal-integrity model Resistor
simulation model Resistor
footprint 0612
pins: 1, 2

## RC0603FR-0724KL
designator R?  ValueDisplayed: 24.0k  (hidden comment: RC0603FR-0724KL)
RES, 24.0 k, 1%, 0.1 W, 0603; Manufacturer: Yageo America; CompType: Resistor; Value: 24.0k; Res_ohm: 24000; Value_Code: 24k0; Tolerance_%: 1; Power_W: 0.1; Value2: 0.1W; VDC_V: 150; TempCo: 200 ppm/C; U/M: EA; SymbolVersion: 2009-05-29; PartNumber: RC0603FR-0724KL; PackageReference: 0603; RoHS: Y; Value1: 1%; MountType: SMT; Technology: Thick Film; Published: 2008-06-26; Publisher: Texas Instruments; LatestRevisionDate: 2014-10-21; ComponentLink1Description: Datasheet link; ComponentLink1URL: http://www.yageo.com/pdf/Pu-RC0603_51_PbFree_L_2.pdf; Supplier 1: Digi-Key; Supplier Part Number 1: 311-24.0KHRCT-ND; Supplier 2: Mouser; Supplier Part Number 2: 603-RC0603FR-0724KL; Supplier 3: Farnell; Supplier Part Number 3: 1799336
signal-integrity model Resistor
simulation model Resistor
footprint 0603
footprint 0603M
footprint 0603L
footprint 0603_HV
footprint 0603S
pins: 1, 2

## RT0603DRE074R7L
designator R?  ValueDisplayed: 4.70  (hidden comment: RT0603DRE074R7L)
RES, 4.70, 0.5%, 0.1 W, 0603; Manufacturer: Yageo America; CompType: Resistor; Value: 4.70; Res_ohm: 4.7; Value_Code: 4R70; Tolerance_%: 0.5; Power_W: 0.1; Value2: 0.1W; VDC_V: 75; TempCo: 50 ppm/C; SizeArea_mm2: 1.28; SizeX_mm: 1.6; SizeY_mm: 0.8; SizeZ_mm: 1; EIA_Code: E192; U/M: EA; AEC Category: Q200; SymbolVersion: 2009-05-29; PartNumber: RT0603DRE074R7L; PackageReference: 0603; RoHS: Y; Value1: 0.5%; MountType: SMT; Technology: Thin Film; Published: 2008-06-26; Publisher: Texas Instruments; LatestRevisionDate: 2016-06-29; ComponentLink1Description: Datasheet link; ComponentLink1URL: http://www.yageo.com/pdf/PYu-RT_1-to-0.05_RoHS_L_3.pdf; AEC Qualified: ?
signal-integrity model Resistor
simulation model Resistor
footprint 0603
footprint 0603M
footprint 0603L
footprint 0603_HV
footprint 0603S
pins: 1, 2

## SI7454DDP-T1-GE3
designator Q?
MOSFET, N-CH, 100 V, 21 A, PowerPAK SO-8; Manufacturer: Vishay-Siliconix; Alternate Manufacturer: None; U/M: EA; ChType: N; Value: 100V; VdsMax_V: 100; Value1: 0.047 ohm; Rdson45_ohm: 0.047; Value2: 12.8 nC; QgTyp_nC: 12.8; Vgs_V: 20; IdsMax_A: 21; SizeAreaWB_mm2: 55.131; SizeArea_mm2: 29.351; SizeX_mm: 5.99; SizeY_mm: 4.9; SizeZ_mm: 1.12; AEC Category: Q101; SymbolVersion: 2011-08-16; PartNumber: SI7454DDP-T1-GE3; PackageReference: PowerPAK SO-8; CompType: MOSFET; RoHS: Y; MountType: SMT; Published: 2008-06-19; Publisher: Texas Instruments; LatestRevisionDate: 2016-10-20; LatestRevisionNote: Added parts.; ComponentLink1Description: Datasheet link; ComponentLink1URL: http://www.vishay.com/docs/67883/si7454ddp.pdf; Supplier 1: Digi-Key; Supplier Part Number 1: SI7454DDP-T1-GE3CT-ND; Supplier 2: Mouser; Supplier Part Number 2: 78-SI7454DDP-T1-GE3; Supplier 3: Farnell; Supplier Part Number 3: 2283675; AEC Qualified: N
footprint PowerPAK_SO-8
footprint PowerPAK_SO-8_NoVias
pins: 1 S, 2 S, 3 S, 4 G, 5 D, 6 D, 7 D, 8 D, 9 D
text: 5,6,; 7,8; 1,2,3

## SN74LV1T00DBVR
designator U?
Single Power Supply 2-Input Positive NAND Gate CMOS Logic Level Shifter, DBV0005A; Manufacturer: Texas Instruments; SymbolCreator: a0411947; CompType: IC; U/M: EA; SymbolVersion: 2013-07-16; PartNumber: SN74LV1T00DBVR; PackageReference: DBV0005A; MountType: SMT; ComponentLink1Description: Datasheet Link; ComponentLink1URL: http://www.ti.com/lit/ds/symlink/sn74lv1t00.pdf; Publisher: Texas Instruments; LatestRevisionDate: 2015-06-16; Alternate Manufacturer: Texas Instruments
footprint DBV0005A_N
footprint DBV0005A_M
footprint DBV0005A_L
pins: 1 A (in), 2 B (in), 3 GND (power), 4 Y (out), 5 VCC (power)

## SN74LV1T32DBVR
designator U?
Single Power Supply 2-Input Positive OR Gate CMOS Logic Level Shifter, DBV0005A; Manufacturer: Texas Instruments; SymbolCreator: a0411947; CompType: IC; U/M: EA; SymbolVersion: 2013-08-09; PartNumber: SN74LV1T32DBVR; PackageReference: DBV0005A; MountType: SMT; ComponentLink1Description: Datasheet Link; ComponentLink1URL: http://www.ti.com/lit/ds/symlink/sn74lv1t32.pdf; RoHS: Y; Publisher: Texas Instruments; LatestRevisionDate: 2015-06-16; Alternate Manufacturer: Texas Instruments
footprint DBV0005A_N
footprint DBV0005A_M
footprint DBV0005A_L
pins: 1 A (in), 2 B (in), 3 GND (power), 4 Y (out), 5 VCC (power)
text: V+; V-

## SN74LVC1G04QDBVRQ1
designator U?
Single Inverter Gate, DBV0005A; Manufacturer: Texas Instruments; SymbolCreator: a0411947; CompType: IC; U/M: EA; SymbolVersion: 2014-03-18; PartNumber: SN74LVC1G04QDBVRQ1; PackageReference: DBV0005A; MountType: SMT; ComponentLink1Description: Datasheet Link; ComponentLink1URL: http://www.ti.com/lit/ds/symlink/sn74lvc1g04-q1.pdf; RoHS: Y; Publisher: Texas Instruments; LatestRevisionDate: 2015-06-16; Alternate Manufacturer: Texas Instruments
footprint DBV0005A_N
footprint DBV0005A_M
footprint DBV0005A_L
pins: 1 NC, 2 A (in), 3 GND (power), 4 Y (out), 5 VCC (power)
2 alternate drawings of the same symbol

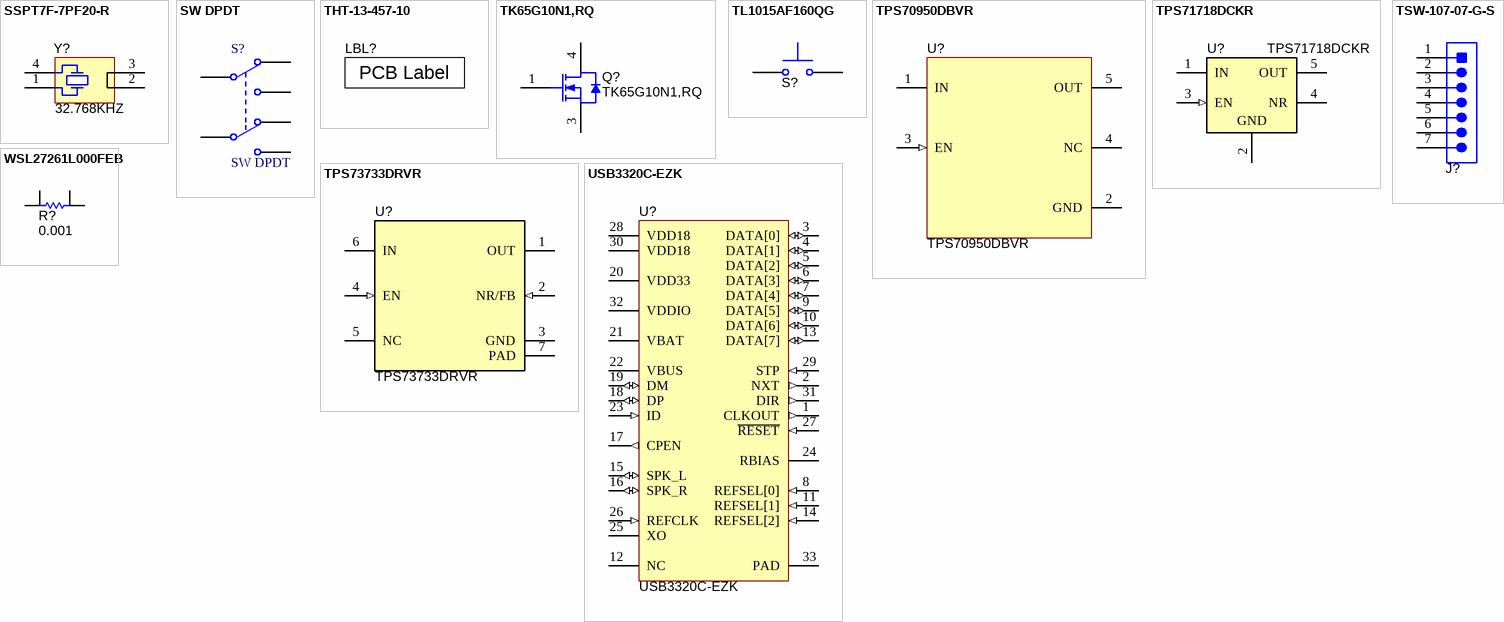
[diagram p5: symbols SSPT7F-7PF20-R to WSL27261L000FEB]

## SSPT7F-7PF20-R
designator Y?  Frequency: 32.768KHZ  (hidden comment: SSPT7F-7PF20-R)
CRYSTAL, 32.768KHZ, 7PF, SMD; Manufacturer: Seiko Instruments; SymbolCreator: x0208325; U/M: EA; TaMin_C: -40; TaMax_C: 85; Frequency Stability: ±20ppm; SymbolVersion: 2014-01-08; PartNumber: SSPT7F-7PF20-R; CompType: Crystal; PackageReference: 1.5x1.4x6.7mm; MountType: SMT; RoHS: Y; ComponentLink1Description: Datasheet Link; ComponentLink1URL: http://www.sii.co.jp/data/file_PRODUCT_MASTER_1309_GRAPHIC03.pdf; Publisher: Texas Instruments; LatestRevisionDate: 2015-10-19; Supplier 1: Digi-Key; Supplier Part Number 1: 728-1065-1-ND; Supplier 2: Mouser; Supplier Part Number 2: 628-SSPT7F-7PF20PPM
footprint Seiko_SSP-T
pins: 1, 2, 3, 4

## SW DPDT
designator S?
Switch; Published: 24-Mar-1999; LatestRevisionDate: 29-May-2009; LatestRevisionNote: IPC-7351 Footprint Added.; PackageVersion: Mar-2001; PackageReference: SOT23-6; Publisher: Altium Limited; PackageDescription: 6-Pin SOT-23 Package 0.95 mm Pitch, 2.7 mm Lead Span; Code_JEITA: SC-74; Code_IPC: SOT26A-6
footprint SOT23-6_N (SOT23, 6-Leads, Body 2.9x1.6mm, Pitch 0.95mm, Lead Span 2.7mm, IPC Medium Density)
footprint SOT23-6_L (SOT23, 6-Leads, Body 2.9x1.6mm, Pitch 0.95mm, Lead Span 2.7mm, IPC High Density)
footprint SOT23-6_M (SOT23, 6-Leads, Body 2.9x1.6mm, Pitch 0.95mm, Lead Span 2.7mm, IPC Low Density)
pins: 1 COMMON1, 2 NC1, 3 NO1, 4 NC2, 5 COMMON2, 6 NO2

## THT-13-457-10
designator LBL?
Thermal Transfer Printable Labels, 1.250" W x 0.250" H - 10,000 per roll; Manufacturer: Brady; PartNumber: THT-13-457-10; SymbolCreator: a0412235; CompType: Label; SymbolVersion: 2012-06-12; ClassName: Label; RoHS: Y; PackageReference: PCB Label 1.25 x 0.250 inch; MountType: N/A; ComponentLink1Description: Web Page; ComponentLink1URL: http://www.bradyid.com/bradyid/pdpv/THT-13-457-10.html; Publisher: Texas Instruments; LatestRevisionDate: 2016-09-13; Supplier 1: Newark; Supplier Part Number 1: 04H3909
footprint Label_1250x250
text: PCB Label

## TK65G10N1,RQ
designator Q?
MOSFET N CH 100V D2PAK; Manufacturer: Toshiba Semiconductor and Storage; SymbolVersion: use current date i.e. 2008-05-20; CompType: Used in some BOM reports.  Useful for finding later.; U/M: EA, IN, or GM; SymbolCreator: Use a-id; Power - Max: 156W; Current - Continuous Drain (Id) @ 25°C: 65A (Ta); FET Type: MOSFET N-Channel, Metal Oxide; FET Feature: Standard; Vgs(th) (Max) @ Id: 4V @ 1mA; Input Capacitance (Ciss) @ Vds: 5400pF @ 50V; Rds On (Max) @ Id, Vgs: 4.5 mOhm @ 32.5A, 10V; Gate Charge (Qg) @ Vgs: 81nC @ 10V; PartNumber: TK65G10N1,RQ; PackageReference: TO-263-3, D²Pak (2 Leads + Tab), TO-263AB; VdsMax_V: 100V; RoHS: RoHS Compliant; MountType: *; ComponentLink1Description: Datasheet Link; Alternate Manufacturer: -; Alternate PartNumber: -; Supplier 1: Digi-Key; Supplier Part Number 1: TK65G10N1RQCT-ND; Supplier 2: Mouser; Supplier Part Number 2: 757-TK65G10N1RQ; Supplier: Digi-Key; Supplier Device Package: D2PAK; Category: Discrete Semiconductor Products; Packaging: Cut Tape (CT); ComponentLink2URL: http://www.semicon.toshiba.co.jp/info/docget.jsp?type=datasheet&lang=en&pid=TK65G10N1; ComponentLink2Description: http://www.semicon.toshiba.co.jp/info/docget.jsp?type=datasheet&lang=en&pid=TK65G10N1; Supplier Part Number: TK65G10N1RQCT-ND
footprint DDPAK (D2-PAK, 3-Pads, Body 9.7x10.4mm (max), TO-263AB, using Vishay Silionix recommended pad sizes)
pins: 1 G, 3 S, 4 D

## TL1015AF160QG
designator S?  (value not drawn)
Switch, Tactile, SPST-NO, 0.05A, 12V, SMT; Manufacturer: E-Switch; SymbolCreator: a0412235; VDC_V: 12; SwitchFunction: Off-Mom; PositionCount: 1; CurrentRating_mA: 50; SymbolVersion: 2012-10-29; PartNumber: TL1015AF160QG; MountType: SMT; ComponentLink1Description: Datasheet URL; ComponentLink1URL: http://spec.e-switch.com/P-J/P420000.pdf; RoHS: Y; Circuit: SPST-NO; Orientation: Top Actuated; CompType: Switch; PackageReference: Switch, 4.4x2x2.9 mm; Publisher: Texas Instruments; LatestRevisionDate: 2015-10-14; Supplier 1: Digi-Key; Supplier Part Number 1: EG4344CT-ND; Supplier 2: Mouser; Supplier Part Number 2: 612-TL1015AF; Supplier 3: Farnell; Supplier Part Number 3: 2292962
footprint SW_TL1015AF160QG
pins: 1, 2

## TPS70950DBVR
designator U?
150-mA, 30-V, 1-uA IQ Voltage Regulators with Enable, DBV0005A; Alternate PartNumber: TPS70950DBVT; Manufacturer: Texas Instruments; SymbolCreator: Altium; CompType: IC; U/M: EA; SymbolVersion: 2014-08-29; PartNumber: TPS70950DBVR; PackageReference: DBV0005A; MountType: SMT; ComponentLink1Description: Datasheet Link; ComponentLink1URL: http://www.ti.com/lit/ds/symlink/tps70950.pdf; RoHS: Y; Publisher: Texas Instruments; LatestRevisionDate: 2014-11-26; Alternate Manufacturer: Texas Instruments
footprint DBV0005A_N
footprint DBV0005A_M
footprint DBV0005A_L
pins: 1 IN (power) "Unregulated input to the device", 2 GND (power) "Ground", 3 EN (in) "Enable pin", 4 NC "No internal connection", 5 OUT (power) "Regulated output voltage."

## TPS71718DCKR
designator U?
Single Output High PSRR LDO, 150 mA, Fixed 1.8 V Output, 2.5 to 6.5 V Input, with Low IQ, 5-pin SC70 (DCK), -40 to 85 degC, Green (RoHS & no Sb/Br); Manufacturer: Texas Instruments; Alternate PartNumber: Equivalent; Accuracy(%): 3; Fixed Output Options(V): 1.8; Iout(Max)(A): 0.15; Iq(Typ)(mA): 0.05; SubFamily: Single Channel LDO; Vdo(Typ)(mV): 170; Vin(Max)(V): 6.5; Vin(Min)(V): 2.5; DatasheetVersion: SBVS068G; PackageVersion: 4093553-3/G; PackageReference: DCK0005A; PackageDescription: 5-Pin Plastic Small-Outline, Body 2 x 1.25 mm, Pitch 0.65 mm; Supplier 1: Digi-Key; Supplier Part Number 1: 296-19646-2-ND; Supplier 2: Digi-Key; Supplier Part Number 2: 296-19646-1-ND; Supplier 3: Digi-Key; Supplier Part Number 3: 296-19646-6-ND; Supplier 4: Farnell; Supplier Part Number 4: 2120470; Supplier 5: Newark; Supplier Part Number 5: 94T5103; Supplier 6: Newark; Supplier Part Number 6: 84K3835; Supplier 7: Mouser; Supplier Part Number 7: 595-TPS71718DCKR; Eco-Plan: Green (RoHS & no Sb/Br); Vout Adj(Max)(V): 1.8; Vout Adj(Min)(V): 1.8; MountType: SMT; Code_JEDEC: MO-203; PartNumber: TPS71718DCKR; ComponentLink1Description: Manufacturer URL; ComponentLink1URL: http://www.ti.com/; ComponentLink2Description: Datasheet; ComponentLink2URL: http://www.ti.com/general/docs/lit/getliterature.tsp?genericPartNumber=TPS71718&fileType=pdf; ComponentLink3Description: Package Specification; ComponentLink3URL: http://www.ti.com/litv/pdf/mpds025f; Alternate Manufacturer: Texas Instruments
footprint DCK0005A_N (SOT353, 5-Leads, Body 2x1.3mm, Pitch 0.65mm, Lead Span 2.1mm, IPC Medium Density)
footprint DCK0005A_M (SOT353, 5-Leads, Body 2x1.3mm, Pitch 0.65mm, Lead Span 2.1mm, IPC Low Density)
footprint DCK0005A_L (SOT353, 5-Leads, Body 2x1.3mm, Pitch 0.65mm, Lead Span 2.1mm, IPC High Density)
pins: 1 IN (power) "Input supply.", 2 GND (power) "Ground.", 3 EN (in) "Driving the enable pin (EN) high turns on the regulator .Driving this pin low puts the regulator into shutdown mode.EN can be connected to IN if not used.", 4 NR "Fixed voltage versions only; connecting an external capacitor to this pin bypasses noise generated by the internal bandgap. This capacitor allows output noise to be reduced to very low levels.", 5 OUT (power) "Output for the regulator. A small capacitor (total typical capacitance >= 2.0uF ceramic) is needed from this pin to ground to assure stability."

## TPS73733DRVR
designator U?
1-A Low-Dropout Regulator With Reverse Current Protection, DRV0006A; Manufacturer: Texas Instruments; Alternate PartNumber: TPS73733DRVT; SymbolCreator: a0411947; CompType: IC; U/M: EA; PackageReference: DRV0006A; MountType: SMT; PartNumber: TPS73733DRVR; ComponentLink1Description: Datasheet Link; ComponentLink1URL: http://www.ti.com/lit/ds/symlink/tps737.pdf; Alternate Manufacturer: Texas Instruments; SymbolVersion: 2015-07-30; RoHS: Y; Publisher: Texas Instruments; LatestRevisionDate: 2015-10-23; ClassName: ThermalPads
footprint DRV0006A
footprint DRV0006A_NV
pins: 1 OUT (power), 2 NR/FB (in), 3 GND (power), 4 EN (in), 5 NC, 6 IN (power), 7 PAD (power)

## TSW-107-07-G-S
designator J?  (value not drawn)
Header, 100mil, 7x1, Gold, TH; Manufacturer: Samtec; SymbolCreator: a0411947; U/M: EA; SymbolVersion: 2013-12-22; PartNumber: TSW-107-07-G-S; PackageReference: 7x1 Header; ClassName: Header; CompType: Header; RoHS: Y; MountType: TH; ComponentLink1Description: Datasheet Link; ComponentLink1URL: http://samtec.com/ftppub/pdf/TSW_TH.PDF; Publisher: Texas Instruments; LatestRevisionDate: 2015-10-21; Supplier 1: Digi-Key; Supplier Part Number 1: SAM1029-07-ND
footprint TSW-107-07-G-S
footprint TSW-107-XX-XXX-S
pins: 1, 2, 3, 4, 5, 6, 7

## USB3320C-EZK
designator U?
Highly Integrated Full Featured Hi-Speed USB 2.0 ULPI Transceiver, QFN-32; Manufacturer: Microchip; SymbolCreator: Altium; SymbolVersion: 2015-04-24; PartNumber: USB3320C-EZK; MountType: SMT; ComponentLink1Description: Datasheet URL; ComponentLink1URL: http://ww1.microchip.com/downloads/en/DeviceDoc/00001792A.pdf; RoHS: Y; PackageReference: 5x5 QFN-32; Publisher: Texas Instruments; LatestRevisionDate: 2016-02-05; Supplier 1: Digi-Key; Supplier Part Number 1: USB3320C-EZK-ND; Supplier 2: Mouser; Supplier Part Number 2: 886-USB3320C-EZK; Supplier 3: Farnell; Supplier Part Number 3: 2292615
footprint Microchip_32QFN-3304-5x5B
pins: 1 CLKOUT (out), 2 NXT (out), 3 DATA[0] (io), 4 DATA[1] (io), 5 DATA[2] (io), 6 DATA[3] (io), 7 DATA[4] (io), 8 REFSEL[0] (in), 9 DATA[5] (io), 10 DATA[6] (io), 11 REFSEL[1] (in), 12 NC, 13 DATA[7] (io), 14 REFSEL[2] (in), 15 SPK_L (io), 16 SPK_R (io), 17 CPEN (out), 18 DP (io), 19 DM (io), 20 VDD33 (power), 21 VBAT (power), 22 VBUS, 23 ID (in), 24 RBIAS, 25 XO, 26 REFCLK (in), 27 ~{RESET} (in), 28 VDD18 (power), 29 STP (in), 30 VDD18 (power), 31 DIR (out), 32 VDDIO (power), 33 PAD (power)

## WSL27261L000FEB
designator R?  ValueDisplayed: 0.001  (hidden comment: WSL27261L000FEB)
RES, 0.001, 1%, 3 W, 6.6x3x6.9mm; Manufacturer: Vishay-Dale; CompType: Resistor; U/M: EA; Tolerance_%: 1; Value: 0.001; TempCo: 75 ppm/C; Power_W: 3; Value_Code: 1L000; Value2: 3W; EIA_Code: E96; AEC Category: Q200; SymbolVersion: 2009-05-29; MountType: SMT; RoHS: Y; PartNumber: WSL27261L000FEB; PackageReference: 6.6x3x6.9mm; ComponentLink1Description: Datasheet link; ComponentLink1URL: http://www.vishay.com/docs/30131/wsl2726.pdf; Supplier 1: Digi-Key; Supplier 2: Mouser; Supplier Part Number 1: WSLQ-.001CT-ND; Supplier Part Number 2: 71-WSL27261L000FEB; Res_ohm: 0.001; Value1: 1%; Technology: Metal Element; Published: 2008-06-26; Publisher: Texas Instruments; LatestRevisionDate: 2016-08-29; AEC Qualified: ?
signal-integrity model Resistor
simulation model Resistor
footprint RES_WSL2726
pins: 1, 2, 3, 4